# Altium footprint library Caps.TH.PcbLib: 50 footprints (part 2 of 4)
Each footprint in its own frame and in the unit in brackets; x right, y up, seen from the top. Pads: shape width x height; smd on the part's side, far side on the other; paste and mask are expansions set on the pad; w line width, h text height; cw(c..) or ccw(c..) is an arc to the next point about the centre after c.
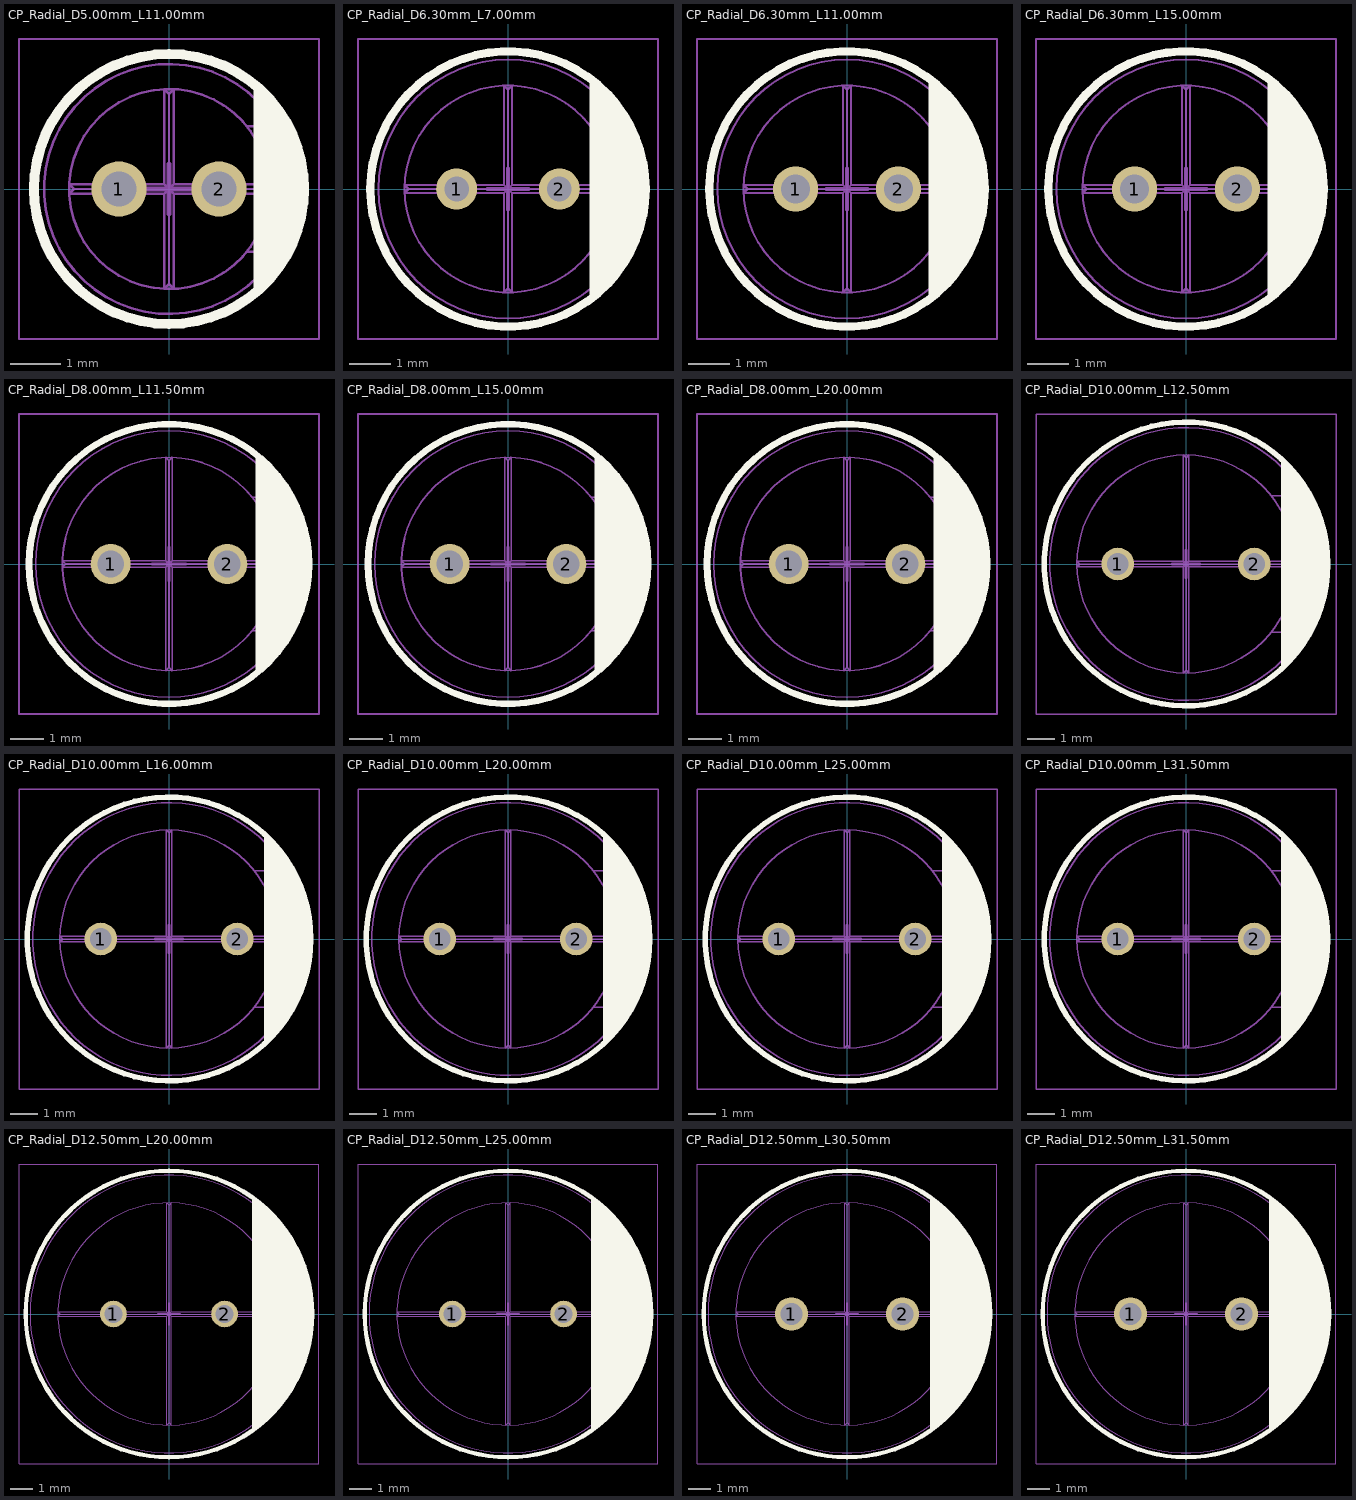
[diagram p1: the footprints below, top view; thin cyan lines are the x and y axes]

## CP_Radial_D5.00mm_L11.00mm [mm] "Radial Capacitor, Diameter 5.00mm, Length 11.00mm, Pitch 2.00mm"
height 11
pads (2):
  round 1.1 hole 0.7: 1(-1,0) 2(1,0)
Top Overlay:
  circle w0.2: c0,0 r2.7
  region: 1.699,2.099 1.855,1.972 2.126,1.676 2.35,1.344 2.523,0.981 2.641,0.598 2.7,0.201 2.7,-0.201 2.641,-0.598 2.523,-0.981 2.35,-1.344 2.126,-1.676 1.855,-1.972 1.699,-2.099
Mechanical 1:
  circle w0.05: c0,0 r2
  circle w0.05: c0,0 r2.5
  lines w0.05: 1.561,-1.25 2.019,-1.25 2.165,-1.25 ; 1.561,1.25 2.019,1.25 2.165,1.25 ; -1.9,0 -1.997,-0.1 -0.1,-0.1 ; -1.9,0 -1.997,0.1 -0.1,0.1 ; -1.9,0 1.9,0 ; -0.1,-0.1 -0.1,-1.997 0,-1.9 ; -0.1,-0.1 0.1,0.1 ; -0.1,0.1 0.1,-0.1 ; -0.1,0.1 -0.1,1.997 0,1.9 ; 0,-1.9 0.1,-1.997 0.1,-0.1 ; 0,-1.9 0,1.9 ; 0,1.9 0.1,1.997 0.1,0.1 ; 0.1,-0.1 1.997,-0.1 1.9,0 ; 0.1,0.1 1.997,0.1 1.9,0
Mechanical 15:
  lines w0.05: -3,-3 -3,3 3,3 3,-3 -3,-3
  lines w0.1: -0.5,0 0.5,0 ; 0,-0.5 0,0.5
3D body "Capacitor_Radial_D5.00mm_L11.00mm_P2.0mm.STEP": height 11, standoff -3.2, extent -2.5,-2.5 2.5,2.5

## CP_Radial_D6.30mm_L7.00mm [mm] "Radial Capacitor, Diameter 6.30mm, Length 7.00mm, Pitch 2.50mm"
height 7
pads (2):
  round 1 hole 0.6: 1(-1.25,0) 2(1.25,0)
Top Overlay:
  circle w0.2: c0,0 r3.35
  region: 1.994,2.692 2.204,2.537 2.57,2.165 2.874,1.74 3.109,1.274 3.269,0.777 3.35,0.261 3.35,-0.261 3.269,-0.777 3.109,-1.274 2.874,-1.74 2.57,-2.165 2.204,-2.537 1.994,-2.692
Mechanical 1:
  circle w0.05: c0,0 r3.15
  circle w0.05: c0,0 r2.52
  lines w0.05: 1.967,-1.575 2.544,-1.575 2.728,-1.575 ; 1.967,1.575 2.544,1.575 2.728,1.575 ; -2.42,0 -2.518,-0.1 -0.1,-0.1 ; -2.42,0 -2.518,0.1 -0.1,0.1 ; -2.42,0 2.42,0 ; -0.1,-0.1 0.1,0.1 ; -0.1,-0.1 -0.1,-2.518 0,-2.42 ; -0.1,0.1 -0.1,2.518 0,2.42 ; -0.1,0.1 0.1,-0.1 ; 0,-2.42 0.1,-2.518 0.1,-0.1 ; 0,-2.42 0,2.42 ; 0,2.42 0.1,2.518 0.1,0.1 ; 0.1,-0.1 2.518,-0.1 2.42,0 ; 0.1,0.1 2.518,0.1 2.42,0
Mechanical 15:
  lines w0.05: -3.65,-3.65 -3.65,3.65 3.65,3.65 3.65,-3.65 -3.65,-3.65
  lines w0.1: -0.5,0 0.5,0 ; 0,-0.5 0,0.5
3D body "Capacitor_Radial_D6.30mm_L7.00mm_P2.5mm.STEP": height 7, standoff -3.2, extent -3.15,-3.15 3.15,3.15

## CP_Radial_D6.30mm_L11.00mm [mm] "Radial Capacitor, Diameter 6.30mm, Length 11.00mm, Pitch 2.50mm"
height 11
pads (2):
  round 1.1 hole 0.7: 1(-1.25,0) 2(1.25,0)
Top Overlay:
  circle w0.2: c0,0 r3.35
  region: 1.994,2.692 2.204,2.537 2.57,2.165 2.874,1.74 3.109,1.274 3.269,0.777 3.35,0.261 3.35,-0.261 3.269,-0.777 3.109,-1.274 2.874,-1.74 2.57,-2.165 2.204,-2.537 1.994,-2.692
Mechanical 1:
  circle w0.05: c0,0 r2.52
  circle w0.05: c0,0 r3.15
  lines w0.05: 1.967,-1.575 2.544,-1.575 2.728,-1.575 ; 1.967,1.575 2.544,1.575 2.728,1.575 ; -2.42,0 2.42,0 ; -2.42,0 -2.518,0.1 -0.1,0.1 ; -2.42,0 -2.518,-0.1 -0.1,-0.1 ; -0.1,-0.1 -0.1,-2.518 0,-2.42 ; -0.1,-0.1 0.1,0.1 ; -0.1,0.1 0.1,-0.1 ; -0.1,0.1 -0.1,2.518 0,2.42 ; 0,-2.42 0,2.42 ; 0,-2.42 0.1,-2.518 0.1,-0.1 ; 0,2.42 0.1,2.518 0.1,0.1 ; 0.1,-0.1 2.518,-0.1 2.42,0 ; 0.1,0.1 2.518,0.1 2.42,0
Mechanical 15:
  lines w0.05: -3.65,-3.65 3.65,-3.65 3.65,3.65 -3.65,3.65 -3.65,-3.65
  lines w0.1: -0.5,0 0.5,0 ; 0,-0.5 0,0.5
3D body "Capacitor_Radial_D6.30mm_L11.00mm_P2.5mm.STEP": height 11, standoff -3.2, extent -3.15,-3.15 3.15,3.15

## CP_Radial_D6.30mm_L15.00mm [mm] "Radial Capacitor, Diameter 6.30mm, Length 15.00mm, Pitch 2.50mm"
height 15
pads (2):
  round 1.1 hole 0.7: 1(-1.25,0) 2(1.25,0)
Top Overlay:
  circle w0.2: c0,0 r3.35
  region: 1.994,2.692 2.204,2.537 2.57,2.165 2.874,1.74 3.109,1.274 3.269,0.777 3.35,0.261 3.35,-0.261 3.269,-0.777 3.109,-1.274 2.874,-1.74 2.57,-2.165 2.204,-2.537 1.994,-2.692
Mechanical 1:
  circle w0.05: c0,0 r3.15
  circle w0.05: c0,0 r2.52
  lines w0.05: 1.967,-1.575 2.544,-1.575 2.728,-1.575 ; 1.967,1.575 2.544,1.575 2.728,1.575 ; -2.42,0 -2.518,-0.1 -0.1,-0.1 ; -2.42,0 -2.518,0.1 -0.1,0.1 ; -2.42,0 2.42,0 ; -0.1,-0.1 0.1,0.1 ; -0.1,-0.1 -0.1,-2.518 0,-2.42 ; -0.1,0.1 -0.1,2.518 0,2.42 ; -0.1,0.1 0.1,-0.1 ; 0,-2.42 0.1,-2.518 0.1,-0.1 ; 0,-2.42 0,2.42 ; 0,2.42 0.1,2.518 0.1,0.1 ; 0.1,-0.1 2.518,-0.1 2.42,0 ; 0.1,0.1 2.518,0.1 2.42,0
Mechanical 15:
  lines w0.05: -3.65,-3.65 -3.65,3.65 3.65,3.65 3.65,-3.65 -3.65,-3.65
  lines w0.1: -0.5,0 0.5,0 ; 0,-0.5 0,0.5
3D body "Capacitor_Radial_D6.30mm_L15.00mm_P2.5mm.STEP": height 15, standoff -3.2, extent -3.15,-3.15 3.15,3.15

## CP_Radial_D8.00mm_L11.50mm [mm] "Radial Capacitor, Diameter 8.00mm, Length 11.50mm, Pitch 3.50mm"
height 11.5
pads (2):
  round 1.2 hole 0.8: 1(-1.75,0) 2(1.75,0)
Top Overlay:
  circle w0.2: c0,0 r4.2
  region: 2.599,3.299 2.848,3.103 3.281,2.641 3.64,2.118 3.917,1.548 4.105,0.943 4.2,0.317 4.2,-0.317 4.105,-0.943 3.917,-1.548 3.64,-2.118 3.281,-2.641 2.848,-3.103 2.599,-3.299
Mechanical 1:
  circle w0.05: c0,0 r4
  circle w0.05: c0,0 r3.2
  lines w0.05: 2.498,-2 3.231,-2 3.464,-2 ; 2.498,2 3.231,2 3.464,2 ; -3.1,0 3.1,0 ; -3.1,0 -3.198,0.1 -0.1,0.1 ; -3.1,0 -3.198,-0.1 -0.1,-0.1 ; -0.1,-0.1 0.1,0.1 ; -0.1,-0.1 -0.1,-3.198 0,-3.1 ; -0.1,0.1 -0.1,3.198 0,3.1 ; -0.1,0.1 0.1,-0.1 ; 0,-3.1 0,3.1 ; 0,-3.1 0.1,-3.198 0.1,-0.1 ; 0,3.1 0.1,3.198 0.1,0.1 ; 0.1,-0.1 3.198,-0.1 3.1,0 ; 0.1,0.1 3.198,0.1 3.1,0
Mechanical 15:
  lines w0.05: -4.5,-4.5 -4.5,4.5 4.5,4.5 4.5,-4.5 -4.5,-4.5
  lines w0.1: -0.5,0 0.5,0 ; 0,-0.5 0,0.5
3D body "Capacitor_Radial_D8.00mm_L11.50mm_P3.5mm.STEP": height 11.5, standoff -3.2, extent -4,-4 4,4

## CP_Radial_D8.00mm_L15.00mm [mm] "Radial Capacitor, Diameter 8.00mm, Length 15.00mm, Pitch 3.50mm"
height 15
pads (2):
  round 1.2 hole 0.8: 1(-1.75,0) 2(1.75,0)
Top Overlay:
  circle w0.2: c0,0 r4.2
  region: 2.599,3.299 2.848,3.103 3.281,2.641 3.64,2.118 3.917,1.548 4.105,0.943 4.2,0.317 4.2,-0.317 4.105,-0.943 3.917,-1.548 3.64,-2.118 3.281,-2.641 2.848,-3.103 2.599,-3.299
Mechanical 1:
  circle w0.05: c0,0 r3.2
  circle w0.05: c0,0 r4
  lines w0.05: 2.498,-2 3.231,-2 3.464,-2 ; 2.498,2 3.231,2 3.464,2 ; -3.1,0 -3.198,-0.1 -0.1,-0.1 ; -3.1,0 -3.198,0.1 -0.1,0.1 ; -3.1,0 3.1,0 ; -0.1,-0.1 -0.1,-3.198 0,-3.1 ; -0.1,-0.1 0.1,0.1 ; -0.1,0.1 0.1,-0.1 ; -0.1,0.1 -0.1,3.198 0,3.1 ; 0,-3.1 0.1,-3.198 0.1,-0.1 ; 0,-3.1 0,3.1 ; 0,3.1 0.1,3.198 0.1,0.1 ; 0.1,-0.1 3.198,-0.1 3.1,0 ; 0.1,0.1 3.198,0.1 3.1,0
Mechanical 15:
  lines w0.05: -4.5,-4.5 4.5,-4.5 4.5,4.5 -4.5,4.5 -4.5,-4.5
  lines w0.1: -0.5,0 0.5,0 ; 0,-0.5 0,0.5
3D body "Capacitor_Radial_D8.00mm_L15.00mm_P3.5mm.STEP": height 15, standoff -3.2, extent -4,-4 4,4

## CP_Radial_D8.00mm_L20.00mm [mm] "Radial Capacitor, Diameter 8.00mm, Length 20.00mm, Pitch 3.50mm"
height 20
pads (2):
  round 1.2 hole 0.8: 1(-1.75,0) 2(1.75,0)
Top Overlay:
  circle w0.2: c0,0 r4.2
  region: 2.599,3.299 2.848,3.103 3.281,2.641 3.64,2.118 3.917,1.548 4.105,0.943 4.2,0.317 4.2,-0.317 4.105,-0.943 3.917,-1.548 3.64,-2.118 3.281,-2.641 2.848,-3.103 2.599,-3.299
Mechanical 1:
  circle w0.05: c0,0 r4
  circle w0.05: c0,0 r3.2
  lines w0.05: 2.498,-2 3.231,-2 3.464,-2 ; 2.498,2 3.231,2 3.464,2 ; -3.1,0 3.1,0 ; -3.1,0 -3.198,0.1 -0.1,0.1 ; -3.1,0 -3.198,-0.1 -0.1,-0.1 ; -0.1,-0.1 0.1,0.1 ; -0.1,-0.1 -0.1,-3.198 0,-3.1 ; -0.1,0.1 -0.1,3.198 0,3.1 ; -0.1,0.1 0.1,-0.1 ; 0,-3.1 0,3.1 ; 0,-3.1 0.1,-3.198 0.1,-0.1 ; 0,3.1 0.1,3.198 0.1,0.1 ; 0.1,-0.1 3.198,-0.1 3.1,0 ; 0.1,0.1 3.198,0.1 3.1,0
Mechanical 15:
  lines w0.05: -4.5,-4.5 -4.5,4.5 4.5,4.5 4.5,-4.5 -4.5,-4.5
  lines w0.1: -0.5,0 0.5,0 ; 0,-0.5 0,0.5
3D body "Capacitor_Radial_D8.00mm_L20.00mm_P3.5mm.STEP": height 20, standoff -3.2, extent -4,-4 4,4

## CP_Radial_D10.00mm_L12.50mm [mm] "Radial Capacitor, Diameter 10.00mm, Length 12.50mm, Pitch 5.00mm"
height 12.5
pads (2):
  round 1.2 hole 0.8: 1(-2.5,0) 2(2.5,0)
Top Overlay:
  circle w0.2: c0,0 r5.2
  region: 3.5,3.8 3.767,3.561 4.229,3.014 4.609,2.408 4.902,1.755 5.1,1.067 5.2,0.358 5.2,-0.358 5.1,-1.067 4.902,-1.755 4.609,-2.408 4.229,-3.014 3.767,-3.561 3.5,-3.8
Mechanical 1:
  circle w0.05: c0,0 r5
  circle w0.05: c0,0 r4
  lines w0.05: 3.122,-2.5 4.039,-2.5 4.33,-2.5 ; 3.122,2.5 4.039,2.5 4.33,2.5 ; -3.9,0 3.9,0 ; -3.9,0 -3.999,0.1 -0.1,0.1 ; -3.9,0 -3.999,-0.1 -0.1,-0.1 ; -0.1,-0.1 0.1,0.1 ; -0.1,-0.1 -0.1,-3.999 0,-3.9 ; -0.1,0.1 -0.1,3.999 0,3.9 ; -0.1,0.1 0.1,-0.1 ; 0,-3.9 0,3.9 ; 0,-3.9 0.1,-3.999 0.1,-0.1 ; 0,3.9 0.1,3.999 0.1,0.1 ; 0.1,-0.1 3.999,-0.1 3.9,0 ; 0.1,0.1 3.999,0.1 3.9,0
Mechanical 15:
  lines w0.05: -5.5,-5.5 -5.5,5.5 5.5,5.5 5.5,-5.5 -5.5,-5.5
  lines w0.1: -0.5,0 0.5,0 ; 0,-0.5 0,0.5
3D body "Capacitor_Radial_D10.00mm_L12.50mm_P5.0mm.STEP": height 12.5, standoff -3.2, extent -4.994,-5 5,5

## CP_Radial_D10.00mm_L16.00mm [mm] "Radial Capacitor, Diameter 10.00mm, Length 16.00mm, Pitch 5.00mm"
height 16
pads (2):
  round 1.2 hole 0.8: 1(-2.5,0) 2(2.5,0)
Top Overlay:
  circle w0.2: c0,0 r5.2
  region: 3.5,3.8 3.767,3.561 4.229,3.014 4.609,2.408 4.902,1.755 5.1,1.067 5.2,0.358 5.2,-0.358 5.1,-1.067 4.902,-1.755 4.609,-2.408 4.229,-3.014 3.767,-3.561 3.5,-3.8
Mechanical 1:
  circle w0.05: c0,0 r5
  circle w0.05: c0,0 r4
  lines w0.05: 3.122,-2.5 4.039,-2.5 4.33,-2.5 ; 3.122,2.5 4.039,2.5 4.33,2.5 ; -3.9,0 3.9,0 ; -3.9,0 -3.999,0.1 -0.1,0.1 ; -3.9,0 -3.999,-0.1 -0.1,-0.1 ; -0.1,-0.1 0.1,0.1 ; -0.1,-0.1 -0.1,-3.999 0,-3.9 ; -0.1,0.1 -0.1,3.999 0,3.9 ; -0.1,0.1 0.1,-0.1 ; 0,-3.9 0,3.9 ; 0,-3.9 0.1,-3.999 0.1,-0.1 ; 0,3.9 0.1,3.999 0.1,0.1 ; 0.1,-0.1 3.999,-0.1 3.9,0 ; 0.1,0.1 3.999,0.1 3.9,0
Mechanical 15:
  lines w0.05: -5.5,-5.5 -5.5,5.5 5.5,5.5 5.5,-5.5 -5.5,-5.5
  lines w0.1: -0.5,0 0.5,0 ; 0,-0.5 0,0.5
3D body "Capacitor_Radial_D10.00mm_L16.00mm_P5.0mm.STEP": height 16, standoff -3.2, extent -4.994,-5 5,5

## CP_Radial_D10.00mm_L20.00mm [mm] "Radial Capacitor, Diameter 10.00mm, Length 20.00mm, Pitch 5.00mm"
height 20
pads (2):
  round 1.2 hole 0.8: 1(-2.5,0) 2(2.5,0)
Top Overlay:
  circle w0.2: c0,0 r5.2
  region: 3.5,3.8 3.767,3.561 4.229,3.014 4.609,2.408 4.902,1.755 5.1,1.067 5.2,0.358 5.2,-0.358 5.1,-1.067 4.902,-1.755 4.609,-2.408 4.229,-3.014 3.767,-3.561 3.5,-3.8
Mechanical 1:
  circle w0.05: c0,0 r5
  circle w0.05: c0,0 r4
  lines w0.05: 3.122,-2.5 4.039,-2.5 4.33,-2.5 ; 3.122,2.5 4.039,2.5 4.33,2.5 ; -3.9,0 3.9,0 ; -3.9,0 -3.999,0.1 -0.1,0.1 ; -3.9,0 -3.999,-0.1 -0.1,-0.1 ; -0.1,-0.1 0.1,0.1 ; -0.1,-0.1 -0.1,-3.999 0,-3.9 ; -0.1,0.1 -0.1,3.999 0,3.9 ; -0.1,0.1 0.1,-0.1 ; 0,-3.9 0,3.9 ; 0,-3.9 0.1,-3.999 0.1,-0.1 ; 0,3.9 0.1,3.999 0.1,0.1 ; 0.1,-0.1 3.999,-0.1 3.9,0 ; 0.1,0.1 3.999,0.1 3.9,0
Mechanical 15:
  lines w0.05: -5.5,-5.5 -5.5,5.5 5.5,5.5 5.5,-5.5 -5.5,-5.5
  lines w0.1: -0.5,0 0.5,0 ; 0,-0.5 0,0.5
3D body "Capacitor_Radial_D10.00mm_L20.00mm_P5.0mm.STEP": height 20, standoff -3.2, extent -4.994,-5 5,5

## CP_Radial_D10.00mm_L25.00mm [mm] "Radial Capacitor, Diameter 10.00mm, Length 25.00mm, Pitch 5.00mm"
height 25
pads (2):
  round 1.2 hole 0.8: 1(-2.5,0) 2(2.5,0)
Top Overlay:
  circle w0.2: c0,0 r5.2
  region: 3.5,3.8 3.767,3.561 4.229,3.014 4.609,2.408 4.902,1.755 5.1,1.067 5.2,0.358 5.2,-0.358 5.1,-1.067 4.902,-1.755 4.609,-2.408 4.229,-3.014 3.767,-3.561 3.5,-3.8
Mechanical 1:
  circle w0.05: c0,0 r4
  circle w0.05: c0,0 r5
  lines w0.05: 3.122,-2.5 4.039,-2.5 4.33,-2.5 ; 3.122,2.5 4.039,2.5 4.33,2.5 ; -3.9,0 -3.999,-0.1 -0.1,-0.1 ; -3.9,0 -3.999,0.1 -0.1,0.1 ; -3.9,0 3.9,0 ; -0.1,-0.1 -0.1,-3.999 0,-3.9 ; -0.1,-0.1 0.1,0.1 ; -0.1,0.1 0.1,-0.1 ; -0.1,0.1 -0.1,3.999 0,3.9 ; 0,-3.9 0.1,-3.999 0.1,-0.1 ; 0,-3.9 0,3.9 ; 0,3.9 0.1,3.999 0.1,0.1 ; 0.1,-0.1 3.999,-0.1 3.9,0 ; 0.1,0.1 3.999,0.1 3.9,0
Mechanical 15:
  lines w0.05: -5.5,-5.5 5.5,-5.5 5.5,5.5 -5.5,5.5 -5.5,-5.5
  lines w0.1: -0.5,0 0.5,0 ; 0,-0.5 0,0.5
3D body "Capacitor_Radial_D10.00mm_L25.00mm_P5.0mm.STEP": height 25, standoff -3.2, extent -4.986,-5 5,5

## CP_Radial_D10.00mm_L31.50mm [mm] "Radial Capacitor, Diameter 10.00mm, Length 31.50mm, Pitch 5.00mm"
height 31.5
pads (2):
  round 1.2 hole 0.8: 1(-2.5,0) 2(2.5,0)
Top Overlay:
  circle w0.2: c0,0 r5.2
  region: 3.5,3.8 3.767,3.561 4.229,3.014 4.609,2.408 4.902,1.755 5.1,1.067 5.2,0.358 5.2,-0.358 5.1,-1.067 4.902,-1.755 4.609,-2.408 4.229,-3.014 3.767,-3.561 3.5,-3.8
Mechanical 1:
  circle w0.05: c0,0 r4
  circle w0.05: c0,0 r5
  lines w0.05: 3.122,-2.5 4.039,-2.5 4.33,-2.5 ; 3.122,2.5 4.039,2.5 4.33,2.5 ; -3.9,0 -3.999,-0.1 -0.1,-0.1 ; -3.9,0 -3.999,0.1 -0.1,0.1 ; -3.9,0 3.9,0 ; -0.1,-0.1 -0.1,-3.999 0,-3.9 ; -0.1,-0.1 0.1,0.1 ; -0.1,0.1 0.1,-0.1 ; -0.1,0.1 -0.1,3.999 0,3.9 ; 0,-3.9 0.1,-3.999 0.1,-0.1 ; 0,-3.9 0,3.9 ; 0,3.9 0.1,3.999 0.1,0.1 ; 0.1,-0.1 3.999,-0.1 3.9,0 ; 0.1,0.1 3.999,0.1 3.9,0
Mechanical 15:
  lines w0.05: -5.5,-5.5 5.5,-5.5 5.5,5.5 -5.5,5.5 -5.5,-5.5
  lines w0.1: -0.5,0 0.5,0 ; 0,-0.5 0,0.5
3D body "Capacitor_Radial_D10.00mm_L31.50mm_P5.0mm.STEP": height 31.5, standoff -3.2, extent -4.983,-5 5,5

## CP_Radial_D12.50mm_L20.00mm [mm] "Radial Capacitor, Diameter 12.50mm, Length 20.00mm, Pitch 5.00mm"
height 20
pads (2):
  round 1.2 hole 0.8: 1(-2.5,0) 2(2.5,0)
Top Overlay:
  circle w0.2: c0,0 r6.45
  region: 3.75,5.25 4.062,5.027 4.629,4.51 5.131,3.929 5.56,3.293 5.911,2.611 6.179,1.891 6.359,1.146 6.45,0.384 6.45,-0.384 6.359,-1.146 6.179,-1.891 5.911,-2.611 5.56,-3.293 5.131,-3.929 4.629,-4.51 4.062,-5.027 3.75,-5.25
Mechanical 1:
  circle w0.05: c0,0 r6.25
  circle w0.05: c0,0 r5
  lines w0.05: 3.903,-3.125 5.049,-3.125 5.413,-3.125 ; 3.903,3.125 5.049,3.125 5.413,3.125 ; -4.9,0 4.9,0 ; -4.9,0 -4.999,0.1 -0.1,0.1 ; -4.9,0 -4.999,-0.1 -0.1,-0.1 ; -0.1,-0.1 0.1,0.1 ; -0.1,-0.1 -0.1,-4.999 0,-4.9 ; -0.1,0.1 -0.1,4.999 0,4.9 ; -0.1,0.1 0.1,-0.1 ; 0,-4.9 0,4.9 ; 0,-4.9 0.1,-4.999 0.1,-0.1 ; 0,4.9 0.1,4.999 0.1,0.1 ; 0.1,-0.1 4.999,-0.1 4.9,0 ; 0.1,0.1 4.999,0.1 4.9,0
Mechanical 15:
  lines w0.05: -6.75,-6.75 6.75,-6.75 6.75,6.75 -6.75,6.75 -6.75,-6.75
  lines w0.1: -0.5,0 0.5,0 ; 0,-0.5 0,0.5
3D body "Capacitor_Radial_D12.50mm_L20.00mm_P5.0mm.STEP": height 20, standoff -3.2, extent -6.238,-6.25 6.25,6.25

## CP_Radial_D12.50mm_L25.00mm [mm] "Radial Capacitor, Diameter 12.50mm, Length 25.00mm, Pitch 5.00mm"
height 25
pads (2):
  round 1.2 hole 0.8: 1(-2.5,0) 2(2.5,0)
Top Overlay:
  circle w0.2: c0,0 r6.45
  region: 3.75,5.25 4.062,5.027 4.629,4.51 5.131,3.929 5.56,3.293 5.911,2.611 6.179,1.891 6.359,1.146 6.45,0.384 6.45,-0.384 6.359,-1.146 6.179,-1.891 5.911,-2.611 5.56,-3.293 5.131,-3.929 4.629,-4.51 4.062,-5.027 3.75,-5.25
Mechanical 1:
  circle w0.05: c0,0 r5
  circle w0.05: c0,0 r6.25
  lines w0.05: 3.903,-3.125 5.049,-3.125 5.413,-3.125 ; 3.903,3.125 5.049,3.125 5.413,3.125 ; -4.9,0 -4.999,-0.1 -0.1,-0.1 ; -4.9,0 -4.999,0.1 -0.1,0.1 ; -4.9,0 4.9,0 ; -0.1,-0.1 -0.1,-4.999 0,-4.9 ; -0.1,-0.1 0.1,0.1 ; -0.1,0.1 0.1,-0.1 ; -0.1,0.1 -0.1,4.999 0,4.9 ; 0,-4.9 0.1,-4.999 0.1,-0.1 ; 0,-4.9 0,4.9 ; 0,4.9 0.1,4.999 0.1,0.1 ; 0.1,-0.1 4.999,-0.1 4.9,0 ; 0.1,0.1 4.999,0.1 4.9,0
Mechanical 15:
  lines w0.05: -6.75,-6.75 -6.75,6.75 6.75,6.75 6.75,-6.75 -6.75,-6.75
  lines w0.1: -0.5,0 0.5,0 ; 0,-0.5 0,0.5
3D body "Capacitor_Radial_D12.50mm_L25.00mm_P5.0mm.STEP": height 25, standoff -3.2, extent -6.25,-6.25 6.25,6.25

## CP_Radial_D12.50mm_L30.50mm [mm] "Radial Capacitor, Diameter 12.50mm, Length 30.50mm, Pitch 5.00mm"
height 30.5
pads (2):
  round 1.5 hole 1: 1(-2.5,0) 2(2.5,0)
Top Overlay:
  circle w0.2: c0,0 r6.45
  region: 3.75,5.25 4.062,5.027 4.629,4.51 5.131,3.929 5.56,3.293 5.911,2.611 6.179,1.891 6.359,1.146 6.45,0.384 6.45,-0.384 6.359,-1.146 6.179,-1.891 5.911,-2.611 5.56,-3.293 5.131,-3.929 4.629,-4.51 4.062,-5.027 3.75,-5.25
Mechanical 1:
  circle w0.05: c0,0 r6.25
  circle w0.05: c0,0 r5
  lines w0.05: 3.903,-3.125 5.049,-3.125 5.413,-3.125 ; 3.903,3.125 5.049,3.125 5.413,3.125 ; -4.9,0 4.9,0 ; -4.9,0 -4.999,0.1 -0.1,0.1 ; -4.9,0 -4.999,-0.1 -0.1,-0.1 ; -0.1,-0.1 0.1,0.1 ; -0.1,-0.1 -0.1,-4.999 0,-4.9 ; -0.1,0.1 -0.1,4.999 0,4.9 ; -0.1,0.1 0.1,-0.1 ; 0,-4.9 0,4.9 ; 0,-4.9 0.1,-4.999 0.1,-0.1 ; 0,4.9 0.1,4.999 0.1,0.1 ; 0.1,-0.1 4.999,-0.1 4.9,0 ; 0.1,0.1 4.999,0.1 4.9,0
Mechanical 15:
  lines w0.05: -6.75,-6.75 6.75,-6.75 6.75,6.75 -6.75,6.75 -6.75,-6.75
  lines w0.1: -0.5,0 0.5,0 ; 0,-0.5 0,0.5
3D body "Capacitor_Radial_D12.50mm_L30.50mm_P5.0mm.STEP": height 30.5, standoff -3.2, extent -6.25,-6.25 6.25,6.25

## CP_Radial_D12.50mm_L31.50mm [mm] "Radial Capacitor, Diameter 12.50mm, Length 31.50mm, Pitch 5.00mm"
height 31.5
pads (2):
  round 1.5 hole 1: 1(-2.5,0) 2(2.5,0)
Top Overlay:
  circle w0.2: c0,0 r6.45
  region: 3.75,5.25 4.062,5.027 4.629,4.51 5.131,3.929 5.56,3.293 5.911,2.611 6.179,1.891 6.359,1.146 6.45,0.384 6.45,-0.384 6.359,-1.146 6.179,-1.891 5.911,-2.611 5.56,-3.293 5.131,-3.929 4.629,-4.51 4.062,-5.027 3.75,-5.25
Mechanical 1:
  circle w0.05: c0,0 r5
  circle w0.05: c0,0 r6.25
  lines w0.05: 3.903,-3.125 5.049,-3.125 5.413,-3.125 ; 3.903,3.125 5.049,3.125 5.413,3.125 ; -4.9,0 -4.999,-0.1 -0.1,-0.1 ; -4.9,0 -4.999,0.1 -0.1,0.1 ; -4.9,0 4.9,0 ; -0.1,-0.1 -0.1,-4.999 0,-4.9 ; -0.1,-0.1 0.1,0.1 ; -0.1,0.1 0.1,-0.1 ; -0.1,0.1 -0.1,4.999 0,4.9 ; 0,-4.9 0.1,-4.999 0.1,-0.1 ; 0,-4.9 0,4.9 ; 0,4.9 0.1,4.999 0.1,0.1 ; 0.1,-0.1 4.999,-0.1 4.9,0 ; 0.1,0.1 4.999,0.1 4.9,0
Mechanical 15:
  lines w0.05: -6.75,-6.75 -6.75,6.75 6.75,6.75 6.75,-6.75 -6.75,-6.75
  lines w0.1: -0.5,0 0.5,0 ; 0,-0.5 0,0.5
3D body "Capacitor_Radial_D12.50mm_L31.50mm_P5.0mm.STEP": height 31.5, standoff -3.2, extent -6.25,-6.25 6.25,6.25